# Altium footprint library RCU.PcbLib: 12 footprints
Each footprint in its own frame and in the unit in brackets; x right, y up, seen from the top. Pads: shape width x height; smd on the part's side, far side on the other; paste and mask are expansions set on the pad; w line width, h text height; cw(c..) or ccw(c..) is an arc to the next point about the centre after c.
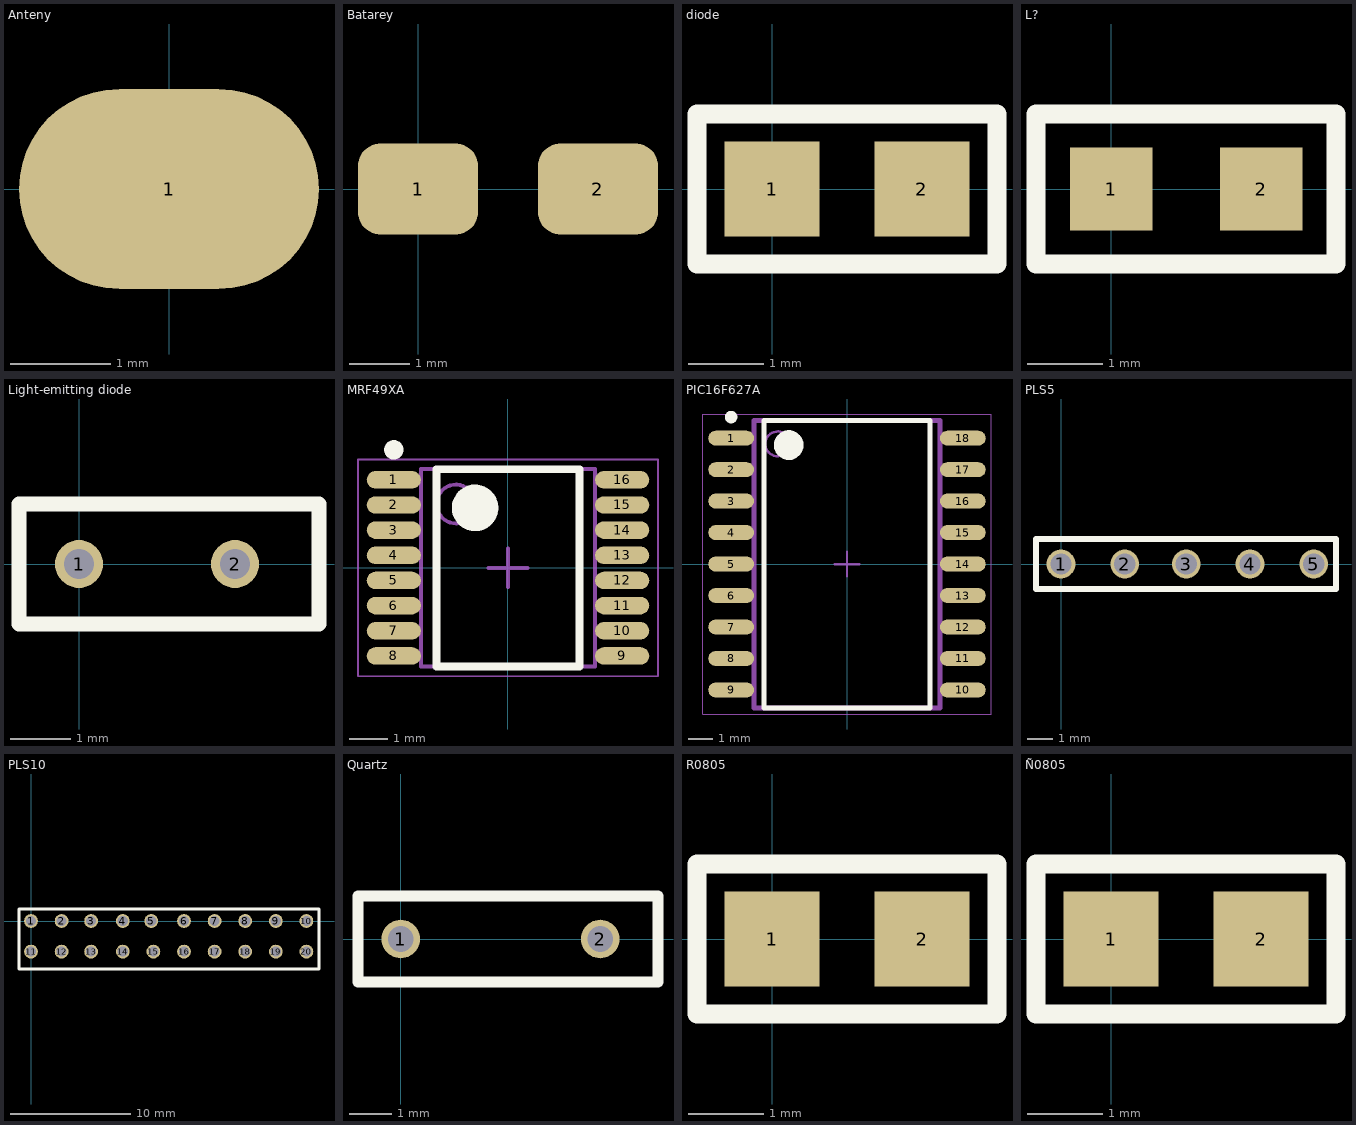
[diagram p0: the footprints below, top view; thin cyan lines are the x and y axes]

## Anteny [mm]
pads (1):
  oval 3x2 smd: 1(0,0)

## Batarey [mm]
pads (2):
  rrect50% 2x1.524 smd: 1(0,0) 2(3,0)

## diode [mm]
pads (2):
  rect 1.27x1.27 smd: 1(0,0) 2(2,0)
Top Overlay:
  lines w0.254: -1,-1 3,-1 3,1 -1,1 -1,-1

## L? [mm]
pads (2):
  rect 1.1x1.1 smd: 1(0,0) 2(2,0)
Top Overlay:
  lines w0.254: -1,-1 3,-1 3,1 -1,1 -1,-1

## Light-emitting diode [mm]
pads (2):
  round 0.8 hole 0.5: 1(0,0) 2(2.6,0)
Top Overlay:
  lines w0.254: -1,-1 -1,1 4,1 4,-1 -1,-1

## MRF49XA [mm]
height 1.2
pads (16):
  oval 1.4x0.45 smd: 1(-2.95,2.275) 2(-2.95,1.625) 3(-2.95,0.975) 4(-2.95,0.325) 5(-2.95,-0.325) 6(-2.95,-0.975) 7(-2.95,-1.625) 8(-2.95,-2.275) 9(2.95,-2.275) 10(2.95,-1.625) 11(2.95,-0.975) 12(2.95,-0.325) 13(2.95,0.325) 14(2.95,0.975) 15(2.95,1.625) 16(2.95,2.275)
Top Overlay:
  circle w0.6: c-0.85,1.55 r0.3
  circle w0.25: c-2.95,3.05 r0.125
  lines w0.2: -1.85,-2.55 1.85,-2.55 1.85,2.55 -1.85,2.55 -1.85,-2.55
Mechanical 13:
  circle w0.1: c-1.35,1.65 r0.5
  lines w0.1: -2.25,-2.55 2.25,-2.55 2.25,2.55 -2.25,2.55 -2.25,-2.55
  text "'.Designator'" at -1,1 h1.52
Mechanical 15:
  lines w0.05: -3.875,-2.8 3.875,-2.8 3.875,2.8 -3.875,2.8 -3.875,-2.8
  lines w0.1: -0.5,0 0.5,0 ; 0,-0.5 0,0.5
3D body: height 1.2, standoff 0.05, extent -2.25,-2.55 2.25,2.55

## PIC16F627A [mm]
height 2.05
pads (18):
  oval 1.85x0.6 smd: 1(-4.675,5.08) 2(-4.675,3.81) 3(-4.675,2.54) 4(-4.675,1.27) 5(-4.675,0) 6(-4.675,-1.27) 7(-4.675,-2.54) 8(-4.675,-3.81) 9(-4.675,-5.08) 10(4.675,-5.08) 11(4.675,-3.81) 12(4.675,-2.54) 13(4.675,-1.27) 14(4.675,0) 15(4.675,1.27) 16(4.675,2.54) 17(4.675,3.81) 18(4.675,5.08)
Top Overlay:
  circle w0.25: c-4.675,5.93 r0.125
  circle w0.6: c-2.35,4.8 r0.3
  lines w0.2: -3.35,-5.8 -3.35,5.8 3.35,5.8 3.35,-5.8 -3.35,-5.8
Mechanical 1:
  text "'.Designator'" at 2,-5 h1.52
Mechanical 13:
  circle w0.1: c-2.8,4.85 r0.5
  lines w0.2: -3.75,-5.8 -3.75,5.8 3.75,5.8 3.75,-5.8 -3.75,-5.8
Mechanical 15:
  lines w0.05: -5.825,-6.05 -5.825,6.05 5.825,6.05 5.825,-6.05 -5.825,-6.05
  lines w0.1: -0.5,0 0.5,0 ; 0,-0.5 0,0.5
3D body: height 2.05, standoff 0.25, extent -3.75,-5.8 3.75,5.8

## PLS5 [mm]
pads (5):
  round 1.15 hole 0.85: 1(0,0) 2(2.55,0) 3(5.01,0) 4(7.56,0) 5(10.11,0)
Top Overlay:
  lines w0.254: -1,-1 -1,1 11,1 11,-1 -1,-1

## PLS10 [mm]
pads (20):
  round 1.15 hole 0.85: 1(0,0) 2(2.55,0) 3(5.01,0) 4(7.65,0) 5(10.02,0) 6(12.75,0) 7(15.3,0) 8(17.85,0) 9(20.4,0) 10(22.95,0) 11(0,-2.55) 12(2.55,-2.55) 13(5.01,-2.55) 14(7.65,-2.55) 15(10.2,-2.55) 16(12.75,-2.55) 17(15.3,-2.55) 18(17.85,-2.55) 19(20.4,-2.55) 20(22.95,-2.55)
Top Overlay:
  lines w0.254: -1,-4 -1,1 24,1 24,-4 -1,-4

## Quartz [mm]
pads (2):
  round 0.9 hole 0.6: 1(0,0) 2(4.65,0)
Top Overlay:
  lines w0.254: -1,-1 6,-1 6,1 -1,1 -1,-1

## R0805 [mm]
pads (2):
  rect 1.27x1.27 smd: 1(0,0) 2(2,0)
Top Overlay:
  lines w0.254: -1,-1 3,-1 3,1 -1,1 -1,-1

## Ñ0805 [mm]
pads (2):
  rect 1.27x1.27 smd: 1(0,0) 2(2,0)
Top Overlay:
  lines w0.254: -1,-1 3,-1 3,1 -1,1 -1,-1